# Altium schematic symbol library GCM21BR71H104KA37L.SchLib: 1 symbol
Pins are listed as number, name and electrical type; pins without a type are passive.

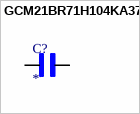
[diagram p0: symbol GCM21BR71H104KA37L]

## GCM21BR71H104KA37L
designator C?
CAP, MLCC, X7R, 0.1UF, 50V, 0805; MF: {'manufacturer': u'Murata'}; MP: GCM21BR71H104KA37L; Package: None; Price: None; Value: *; Availability: Unavailable
footprint CAPC2012X135N
pins: 1, 2